# EAGLE library part 7786_SCREW_TERM (library NewSDR)
Keystone 30A PC Screw Terminal
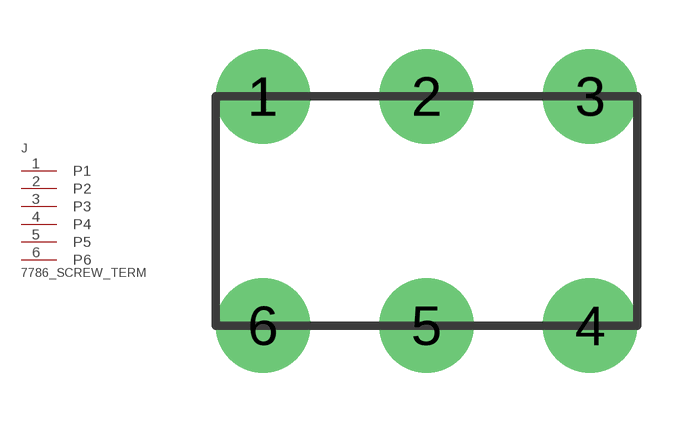
[diagram p68: symbol with the pads of 7786_SCREW_TERM; footprint 7786_SCREW_TERM]

Designator prefix J

## 7786_SCREW_TERM  [7786_SCREW_TERM]
1  P1  pwr
2  P2  pwr
3  P3  pwr
4  P4  pwr
5  P5  pwr
6  P6  pwr

## Footprint 7786_SCREW_TERM (pad centres in mm)
Keystone 30A Screw Terminal
drill 1.93: 1 -5.004,3.505; 2 0,3.505; 3 5.004,3.505; 4 5.004,-3.505; 5 0,-3.505; 6 -5.004,-3.505